# Altium footprint library ExtractedFootprints.PcbLib: 41 footprints (part 2 of 3)
Each footprint in its own frame and in the unit in brackets; x right, y up, seen from the top. Pads: shape width x height; smd on the part's side, far side on the other; paste and mask are expansions set on the pad; w line width, h text height; cw(c..) or ccw(c..) is an arc to the next point about the centre after c.
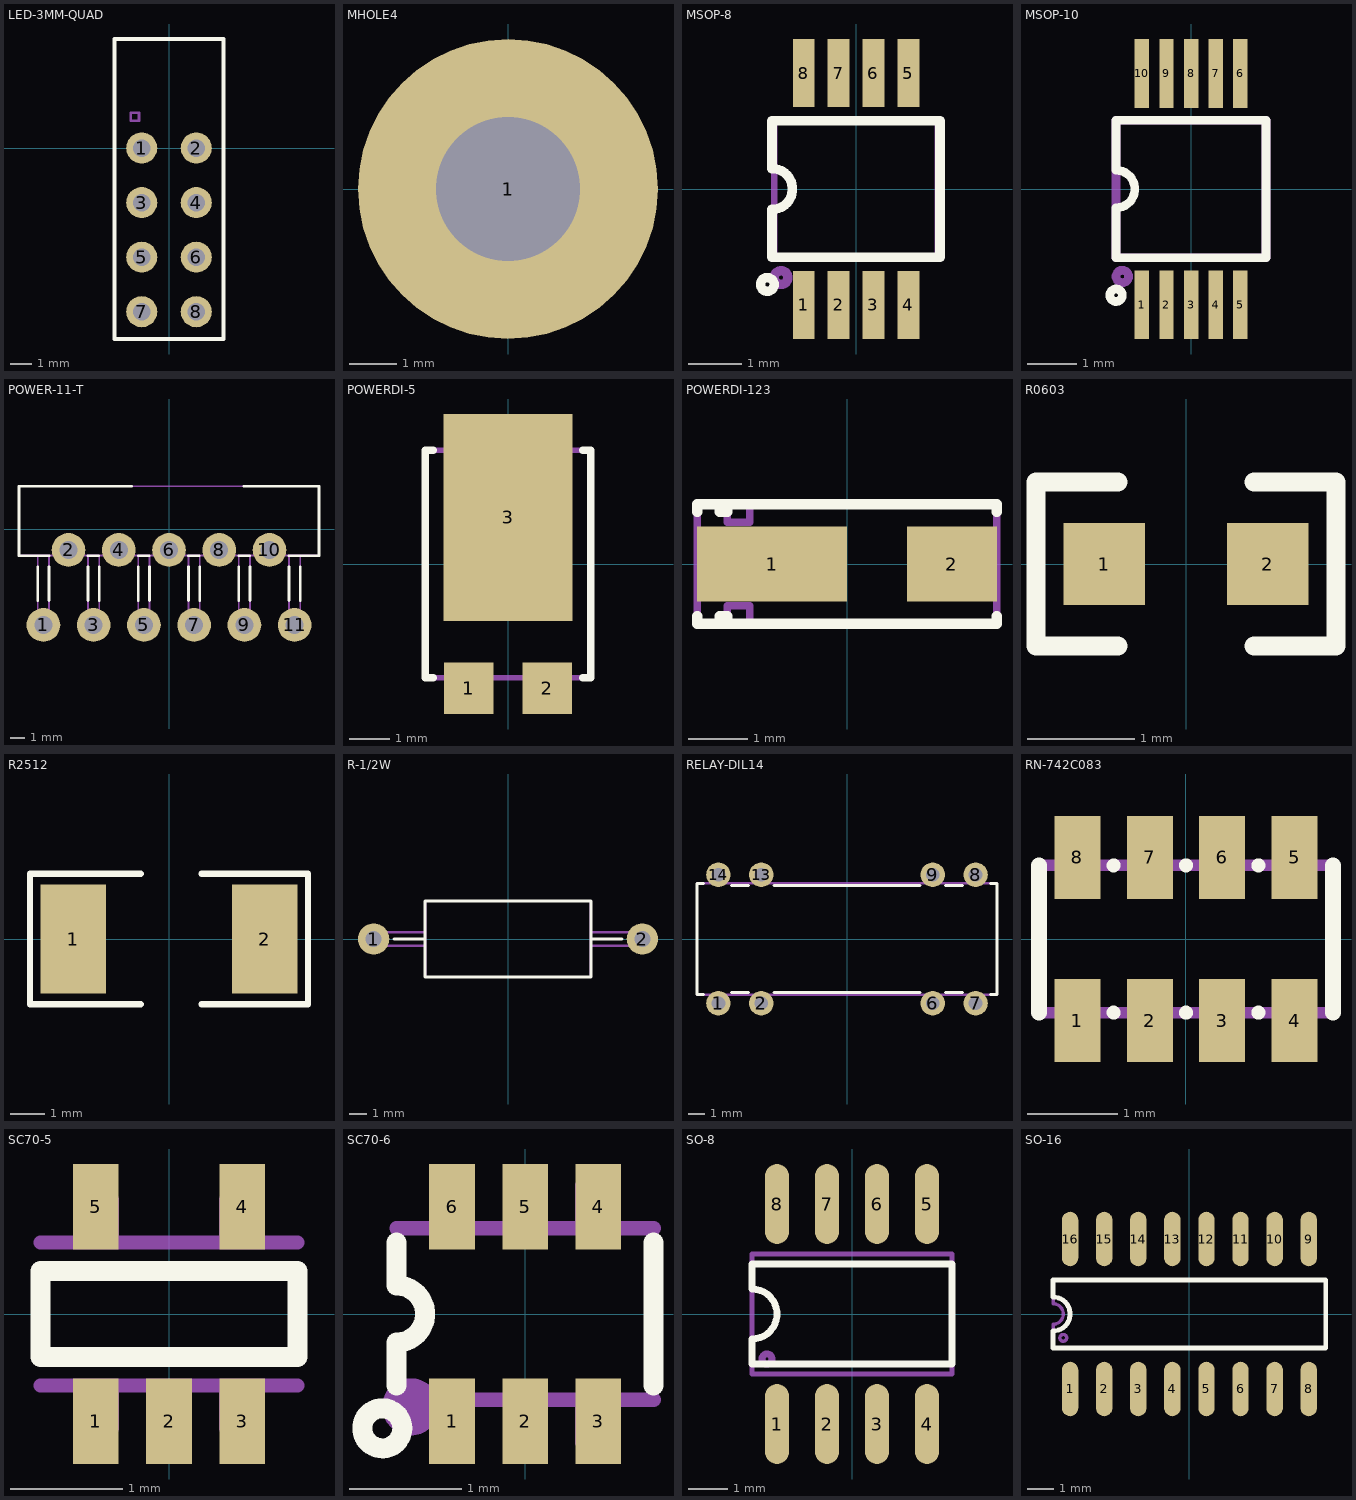
[diagram p1: the footprints below, top view; thin cyan lines are the x and y axes]

## LED-3MM-QUAD [mil] "Dialight 553-xxxx"
height 550
pads (8):
  round 57 / inner round 60 / far side round 60 hole 32 mask+2: 1(-50,0) 2(50,0) 3(-50,-100) 4(50,-100) 5(-50,-200) 6(50,-200) 7(-50,-300) 8(50,-300)
Top Overlay:
  lines w7: -100,-350 -100,200 100,200 100,-350 -100,-350
Mechanical 2:
  lines w5: -100,-350 100,-350 100,200 -100,200 -100,-350 ; -70,50 -55,50 -55,65 -70,65 -70,50

## MHOLE4 [mil]
height 2
pads (1):
  round 250 / inner round 60 / far side round 60 hole 120: 1(0,0)

## MSOP-8 [mil]
height 43
pads (8):
  rect 16x50 smd mask+1: 1(-38.39,-85) 2(-12.8,-85) 3(12.8,-85) 4(38.39,-85) 5(38.39,85) 6(12.8,85) 7(-12.8,85) 8(-38.39,85)
Top Overlay:
  circle w7: c-65,-70 r5
  lines w7: -61.61,-50 -61.61,-15 ccw(c-61.61,0) -61.61,15 -61.62,50 61.6,50 61.6,-50 -61.61,-50
Mechanical 2:
  circle w7: c-55,-65 r5
  lines w5: -60,-50 60,-50 60,50 -60,50 -60,-50
3D body: height 43.31, standoff 0, extent -59.05,-96.45 59.06,96.46

## MSOP-10 [mil]
height 43
pads (10):
  rect 11.5x55 smd mask+1: 1(-39.37,-92.5) 2(-19.69,-92.5) 3(0,-92.5) 4(19.68,-92.5) 5(39.37,-92.5) 6(39.37,92.5) 7(19.68,92.5) 8(0,92.5) 9(-19.69,92.5) 10(-39.37,92.5)
Top Overlay:
  circle w7: c-60,-85 r5
  lines w7: -60,-55 60,-55 60,55 -60,55 -60,15 cw(c-60,0) -60,-15 -60,-55
Mechanical 2:
  circle w7: c-55,-70 r5
  lines w7: -60,-55 -60,55 60,55 60,-55 -60,-55
3D body: height 43.31, standoff 0, extent -59.05,-96.45 59.06,96.46

## POWER-11-T [mil]
height 208
pads (11):
  round 90 / inner round 60 / far side round 60 hole 48 mask+1: 1(-335,-255) 2(-268,-55) 3(-201,-255) 4(-134,-55) 5(-67,-255) 6(0,-55) 7(67,-255) 8(134,-55) 9(201,-255) 10(268,-55) 11(335,-255)
Top Overlay:
  lines w7: -350,-190 -350,-100 ; -320,-190 -320,-100 ; -320,-70 -400,-70 -400,115 -100,115 ; -216,-190 -216,-100 ; -216,-70 -187,-70 ; -186,-190 -186,-100 ; -82,-190 -82,-100 ; -82,-70 -53,-70 ; -52,-190 -52,-100 ; 52,-190 52,-100 ; 52,-70 81,-70 ; 82,-190 82,-100 ; 186,-190 186,-100 ; 186,-70 215,-70 ; 200,115 400,115 400,-70 320,-70 ; 216,-190 216,-100 ; 320,-190 320,-100 ; 350,-190 350,-100
Bottom Overlay:
  text "1" at -325,-190 h35
  text "2" at -255,-155 h35
  text "3" at -190,-190 h35
  text "4" at -120,-155 h35
  text "5" at -55,-190 h35
  text "6" at 10,-155 h35
  text "7" at 75,-190 h35
  text "8" at 145,-155 h35
  text "9" at 210,-190 h35
  text "10" at 290,-155 h35
  text "11" at 355,-190 h35
Mechanical 2:
  lines w5: -350,-70 -350,-255 -320,-255 -320,-70 ; -216,-70 -216,-255 -186,-255 -186,-70 ; -82,-70 -82,-255 -52,-255 -52,-70 ; 52,-70 52,-255 82,-255 82,-70 ; 186,-70 186,-255 216,-255 216,-70 ; 320,-70 320,-255 350,-255 350,-70 ; -400,-70 -400,115 400,115 400,-70 -400,-70

## POWERDI-5 [mil]
height 45
pads (3):
  rect 48x50 smd: 1(-38,-120) 2(38,-120)
  rect 125x200 smd: 3(0,45)
Top Overlay:
  lines w7: -72,-110 -80,-110 -80,110 -72,110 ; 72,-110 80,-110 80,110 72,110
Mechanical 2:
  lines w5: -80,-110 -55,-110 -55,-135 -25,-135 -25,-110 25,-110 25,-135 55,-135 55,-110 80,-110 80,110 50,110 50,135 -50,135 -50,110 -80,110 -80,-110
3D body: height 45.28, standoff 0, extent -79.72,-132.87 79.73,132.88

## POWERDI-123 [mil]
pads (2):
  rect 100x50 smd mask+2: 1(-50,0)
  rect 60x50 smd mask+2: 2(70,0)
Top Overlay:
  lines w7: -100,-35 -100,-40 100,-40 100,-35 ; -100,35 -100,40 100,40 100,35 ; -85,-40 -85,-35 -80,-35 -80,-40 ; -85,40 -85,35 -80,35 -80,40
Mechanical 2:
  lines w5: -80,-40 -80,-28 -65,-28 -65,-40 ; -80,40 -80,28 -65,28 -65,40 ; -100,-40 100,-40 100,40 -100,40 -100,-40
3D body: height 39.37, standoff 0, extent -76.77,-37.99 76.77,37.99

## R0603 [mil]
height 30
pads (2):
  rect 30x30 smd mask+2: 1(-30,0) 2(30,0)
Top Overlay:
  lines w7: -25,-30 -55,-30 -55,30 -25,30 ; 25,-30 55,-30 55,30 25,30
Mechanical 2:
  lines w5: -25,-30 -55,-30 -55,30 -25,30 ; 25,-30 55,-30 55,30 25,30
3D body: height 25, standoff 0, extent -30,-15 30,15

## R2512 [mil]
height 26
pads (2):
  rect 75x125 smd mask+2: 1(-110,0) 2(110,0)
Top Overlay:
  lines w7: -32.5,-75 -160,-75 -160,75 -32.5,75 ; 37.5,-75 160,-75 160,75 37.5,75
Mechanical 2:
  lines w5: -32.5,-75 -160,-75 -160,75 -32.5,75 ; 37.5,-75 160,-75 160,75 37.5,75
3D body: height 35, standoff 0, extent -125,-60 125,60

## R-1/2W [mil]
pads (2):
  round 70 / inner round 60 / far side round 60 hole 36 mask+2: 1(-300,0) 2(300,0)
Top Overlay:
  lines w7: -255,0 -185,0 ; 185,0 255,0 ; -185,-85 185,-85 185,85 -185,85 -185,-85
Mechanical 2:
  lines w5: -270,-15 -185,-15 ; -270,15 -185,15 ; 185,-15 270,-15 ; 185,15 270,15 ; -185,-85 -185,85 185,85 185,-85 -185,-85

## RELAY-DIL14 [mil]
height 250
pads (8):
  round 57 / inner round 60 / far side round 60 hole 32: 1(-300,-150) 2(-200,-150) 6(200,-150) 7(300,-150) 8(300,150) 9(200,150) 13(-200,150) 14(-300,150)
Top Overlay:
  lines w7: -335,-130 -350,-130 -350,130 -335,130 ; -270,-125 -230,-125 ; -270,125 -230,125 ; -170,-125 170,-125 ; -170,125 170,125 ; 230,-125 270,-125 ; 230,125 270,125 ; 335,-130 350,-130 350,130 335,130
Mechanical 2:
  lines w5: -350,-25 -350,-130 350,-130 350,130 -350,130 -350,25

## RN-742C083 [mil]
pads (8):
  rect 20x36 smd mask+1: 1(-47.24,-35.5) 2(-15.75,-35.5) 3(15.75,-35.5) 4(47.24,-35.5) 5(47.24,35.5) 6(15.75,35.5) 7(-15.75,35.5) 8(-47.24,35.5)
Top Overlay:
  circle w5: c-31.5,-32 r0.5
  circle w5: c0,-32 r0.5
  circle w5: c31.5,-32 r0.5
  circle w5: c31.5,32 r0.5
  circle w5: c0,32 r0.5
  circle w5: c-31.5,32 r0.5
  lines w7: -64,-32 -64,32 ; 64,-32 64,32
Mechanical 2:
  lines w5: -64,-32 64,-32 64,32 -64,32 -64,-32
3D body: height 28, standoff 0, extent -67,-35.5 67,35.5

## SC70-5 [mil]
height 44
pads (5):
  rect 16x30 smd mask+1: 1(-25.59,-37.5) 2(0,-37.5) 3(25.59,-37.5) 4(25.59,37.5) 5(-25.59,37.5)
Top Overlay:
  lines w7: -45,-15 -45,15 45,15 45,-15 -45,-15
Mechanical 2:
  lines w5: -45,-25 45,-25 ; -45,25 45,25 ; -30,-25 -30,-40 -20,-40 -20,-25 ; -30,25 -30,40 -20,40 -20,25 ; -5,-25 -5,-40 5,-40 5,-25 ; 20,-25 20,-40 30,-40 30,-25 ; 20,25 20,40 30,40 30,25
3D body: height 43.31, standoff 0, extent -42.32,-47.24 42.33,47.25

## SC70-6 [mil]
height 44
pads (6):
  rect 16x30 smd mask+1: 1(-25.59,-37.5) 2(0,-37.5) 3(25.59,-37.5) 4(25.59,37.5) 5(0,37.5) 6(-25.59,37.5)
Top Overlay:
  circle w7: c-50,-40 r7
  lines w7: -45,-25 -45,-10 ccw(c-45,0) -45,10 -45,25 ; 45,-25 45,25
Mechanical 2:
  circle w10: c-40,-32.5 r5
  lines w5: -45,30 45,30 ; -30,-45 -20,-45 -20,-30 45,-30 ; -30,30 -30,45 -20,45 -20,30 ; -5,-30 -5,-45 5,-45 5,-30 ; -5,30 -5,45 5,45 5,30 ; 20,-30 20,-45 30,-45 30,-30 ; 20,30 20,45 30,45 30,30
3D body: height 43.31, standoff 0, extent -42.32,-47.24 42.33,47.25

## SO-8 [mil]
height 80
pads (8):
  oval 24x80 smd: 1(-75,-110) 2(-25,-110) 3(25,-110) 4(75,-110) 5(75,110) 6(25,110) 7(-25,110) 8(-75,110)
Top Overlay:
  lines w7: -100,-50 -100,-25 ccw(c-100,0) -100,25 -100,50 100,50 100,-50 -100,-50
Mechanical 2:
  circle w7: c-85,-45 r5
  lines w5: -100,-60 100,-60 100,60 -100,60 -100,-60
3D body: height 68.8, standoff 0, extent -98.4,-122 98.4,122

## SO-16 [mil]
height 80
pads (16):
  oval 24x80 smd: 1(-175,-110) 2(-125,-110) 3(-75,-110) 4(-25,-110) 5(25,-110) 6(75,-110) 7(125,-110) 8(175,-110) 9(175,110) 10(125,110) 11(75,110) 12(25,110) 13(-25,110) 14(-75,110) 15(-125,110) 16(-175,110)
Top Overlay:
  lines w7: -200,-50 200,-50 200,50 -200,50 -200,25 cw(c-200,0) -200,-25 -200,-50
Mechanical 2:
  circle w5: c-185,-35 r5
  lines w5: -200,-50 -200,-15 ccw(c-200,0) -200,15 -200,50 200,50 200,-50 -200,-50